# EAGLE library part NOKIA3510 (library cruz_technologies)
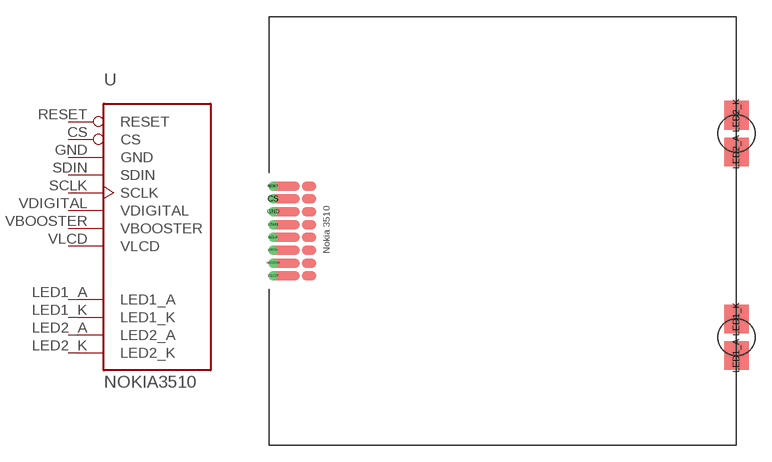
[diagram p0: symbol with the pads of NOKIA3510LCD; footprint NOKIA3510LCD]

Designator prefix -

## NOKIA3510  [NOKIA3510LCD]
CS  CS  in
GND  GND  pwr
LED1_A  LED1_A  pwr
LED1_K  LED1_K  pwr
LED2_A  LED2_A  pwr
LED2_K  LED2_K  pwr
RESET  RESET  in
SCLK  SCLK  in
SDIN  SDIN  in
VBOOSTER  VBOOSTER  pwr
VDIGITAL  VDIGITAL  pwr
VLCD  VLCD  pwr

## Footprint NOKIA3510LCD (pad centres in mm)
drill 0.3: CS -1.15,2.875; GND -1.15,1.725; RESET -1.15,4.025; SCLK -1.15,-0.575; SDIN -1.15,0.575; VBOOSTER -1.15,-2.875; VDIGITAL -1.15,-1.725; VLCD -1.15,-4.025
smd 2.184 x 2.567: LED1_A 40.5,-11.2; LED1_K 40.5,-7.9; LED2_A 40.5,7.1; LED2_K 40.5,10.4